# Altium schematic symbol library USB Connector.SchLib: 2 symbols
Pins are listed as number, name and electrical type; pins without a type are passive.

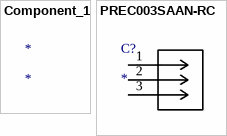
[diagram p0: symbols Component_1 to PREC003SAAN-RC]

## Component_1
designator *

## PREC003SAAN-RC
designator C?
No Description Available; Mfr_Name: Sullins; RefDes: RefDes; Type: Type
footprint CONN_PREC003SAAN-RC_SUL
pins: 1, 2, 3